# EAGLE library part VN7040AJTR (library VN7040AJTR)
Power Switch ICs - Power Distribution High-side driver with MultiSense analog feedback for automotive applications Source: Datasheet <https://componentsearchengine.com/Datasheets/1/VN7040AJTR.pdf>
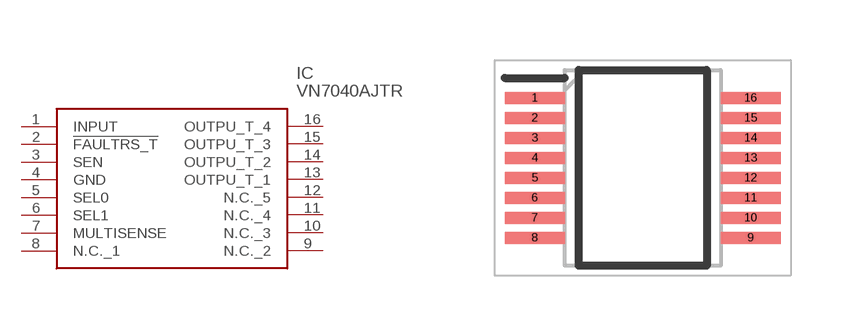
[diagram p0: symbol with the pads of SOP50P600X170-16N; footprint SOP50P600X170-16N]

Designator prefix IC

## VN7040AJTR (Description: Power Switch ICs - Power Distribution High-side driver with MultiSense analog feedback for automotive applications; Height: 1.7mm; Manufacturer_Name: STMicroelectronics; Manufacturer_Part_Number: VN7040AJTR; Mouser_Part_Number: 511-VN7040AJTR; Mouser_Price-Stock: https://www.mouser.co.uk/ProductDetail/STMicroelectronics/VN7040AJTR?qs=pZIKbki37prK%252Bd3HC1Q5kg%3D%3D)  [SOP50P600X170-16N]
1  INPUT
2  !FAULTRS_T
3  SEN
4  GND
5  SEL0
6  SEL1
7  MULTISENSE
8  N.C._1
9  N.C._2
10  N.C._3
11  N.C._4
12  N.C._5
13  OUTPU_T_1
14  OUTPU_T_2
15  OUTPU_T_3
16  OUTPU_T_4

## Footprint SOP50P600X170-16N (pad centres in mm)
PowerSSO-16--
smd 1.5 x 0.3: 1 -2.7,1.75; 2 -2.7,1.25; 3 -2.7,0.75; 4 -2.7,0.25; 5 -2.7,-0.25; 6 -2.7,-0.75; 7 -2.7,-1.25; 8 -2.7,-1.75; 9 2.7,-1.75; 10 2.7,-1.25; 11 2.7,-0.75; 12 2.7,-0.25; 13 2.7,0.25; 14 2.7,0.75; 15 2.7,1.25; 16 2.7,1.75